# EAGLE library part MSS23D18ROHS (library MSS23D18ROHS)
Check availability <https://pricing.snapeda.com/parts/MS-22D18%20G2%20ROHS/Deyilong/view-part?ref=eda>
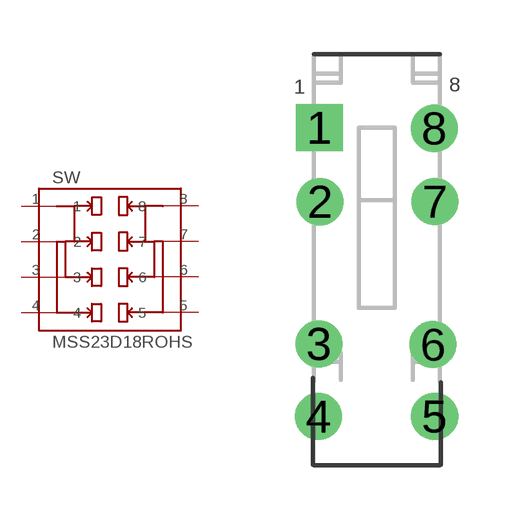
[diagram p0: symbol with the pads of MSS23D18ROHS; footprint MSS23D18ROHS]

Designator prefix SW

## MSS23D18ROHS (AVAILABILITY: Not in stock; CHECK_PRICES: https://www.snapeda.com/parts/MS-22D18%20G2%20ROHS/Deyilong/view-part/?ref=eda; MF: Deyilong; MP: MS-22D18 G2 ROHS; PACKAGE: None; PRICE: None; SNAPEDA_LINK: https://www.snapeda.com/parts/MS-22D18%20G2%20ROHS/Deyilong/view-part/?ref=snap)  [MSS23D18ROHS]
1  1  pas
2  2  pas
3  3  pas
4  4  pas
5  5  pas
6  6  pas
7  7  pas
8  8  pas

## Footprint MSS23D18ROHS (pad centres in mm)
drill 0.8 square: 1 -1.6,5.04
drill 0.8: 2 -1.584,2.984; 3 -1.607,-0.964; 4 -1.622,-2.977; 5 1.6,-2.977; 6 1.556,-0.98; 7 1.61,2.988; 8 1.59,5.023